# EAGLE library part CMLT5088E (library aq-transistor)
DUAL NPN/NPN L88 TRANSISTORS ENHANCED SPECIFICATION PICOmini(TM) SURFACE MOUNT Source: CMLT5078%20SERIES.pdf
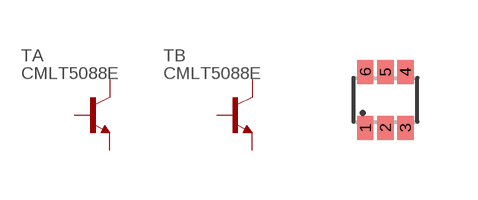
[diagram p3: symbol with the pads of SOT563; footprint SOT563]

Designator prefix T; gates A=NPN B=NPN

## CMLT5088E  [SOT563]
1  A:E  pas
2  A:B  pas
3  B:C  pas
4  B:E  pas
5  B:B  pas
6  A:C  pas

## Footprint SOT563 (pad centres in mm)
SOT-563 Source: www.centralsemi.com ..SOT-563PD.pdf
smd 0.4 x 0.6: 1 -0.5,-0.7; 2 0,-0.7; 3 0.5,-0.7; 4 0.5,0.7; 5 0,0.7; 6 -0.5,0.7